# Altium schematic symbol library Schlib1.SchLib: 6 symbols
Pins are listed as number, name and electrical type; pins without a type are passive.

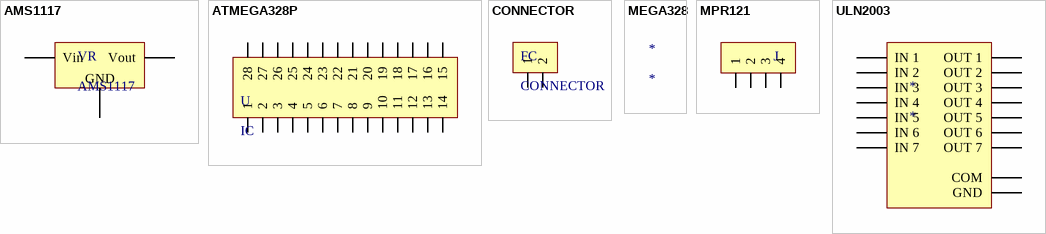
[diagram p0: symbols AMS1117 to ULN2003]

## AMS1117
designator VR
Voltage Regulator AMS1117
footprint AMS1117 (Voltage Regulator)
pins: 1 GND, 2 Vout, 3 Vin, 4

## ATMEGA328P
designator U, comment IC
footprint ATMEGA328P (IC)
pins: 1, 2, 3, 4, 5, 6, 7, 8, 9, 10, 11, 12, 13, 14, 15, 16, 17, 18, 19, 20, 21, 22, 23, 24, 25, 26, 27, 28

## CONNECTOR
designator FC
footprint CONNECTOR
pins: 1, 2

## MEGA328
designator *

## MPR121
designator J  (value not drawn)
footprint MPR121
pins: 1, 2, 3, 4

## ULN2003
designator *
footprint SOIC16
pins: 1 IN 1, 2 IN 2, 3 IN 3, 4 IN 4, 5 IN 5, 6 IN 6, 7 IN 7, 8 GND, 9 COM, 10 OUT 7, 11 OUT 6, 12 OUT 5, 13 OUT 4, 14 OUT 3, 15 OUT 2, 16 OUT 1